# Altium schematic symbol library SCH - POWER - SWITCHMODE - TI TPS5401DGQ.SchLib: 1 symbol
Pins are listed as number, name and electrical type; pins without a type are passive.

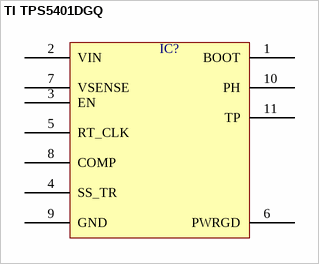
[diagram p0: symbol TI TPS5401DGQ]

## TI TPS5401DGQ
designator IC?  (value not drawn)
pins: 1 BOOT, 2 VIN, 3 EN, 4 SS_TR, 5 RT_CLK, 6 PWRGD, 7 VSENSE, 8 COMP, 9 GND, 10 PH, 11 TP